# Altium footprint library Other.PcbLib: 9 footprints
Each footprint in its own frame and in the unit in brackets; x right, y up, seen from the top. Pads: shape width x height; smd on the part's side, far side on the other; paste and mask are expansions set on the pad; w line width, h text height; cw(c..) or ccw(c..) is an arc to the next point about the centre after c.
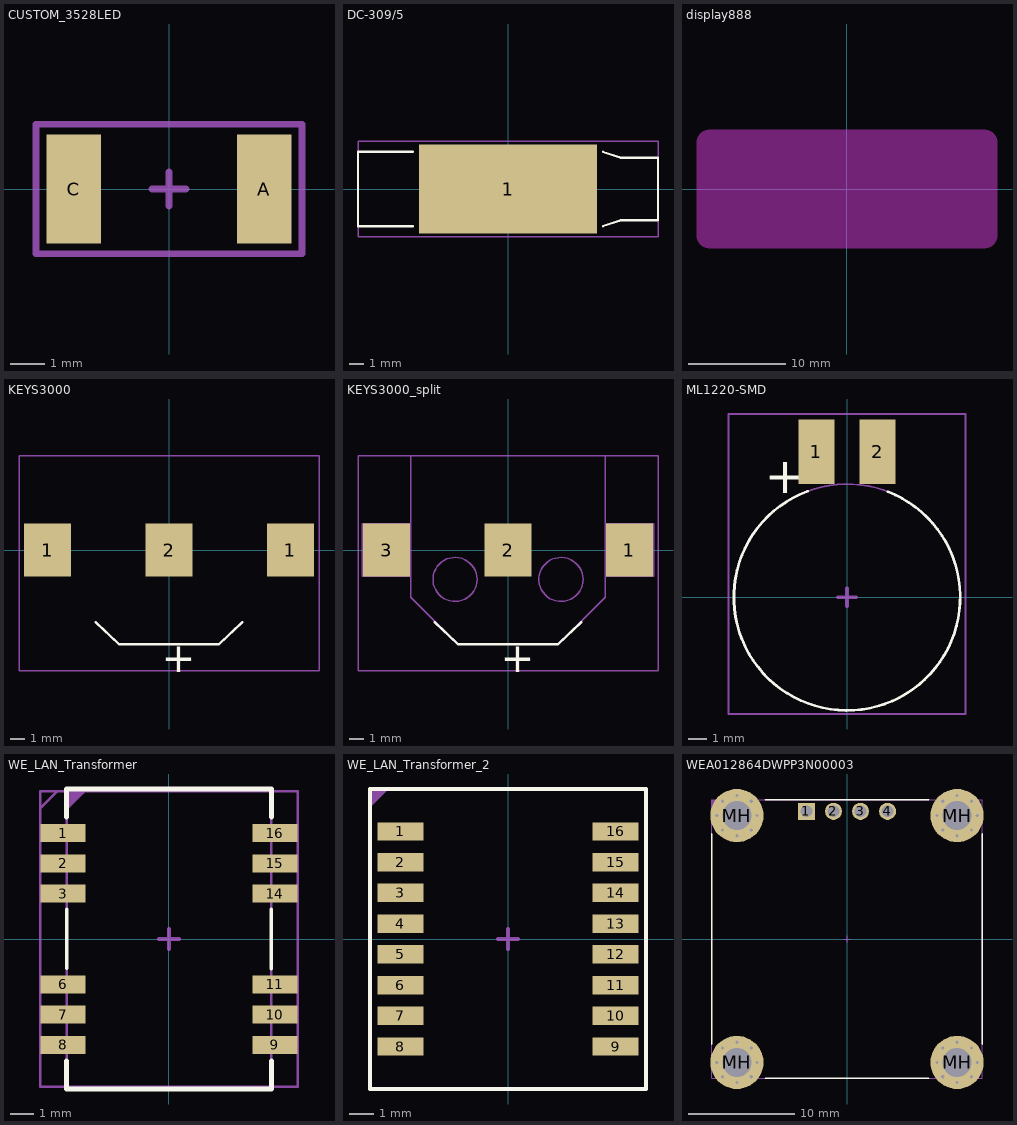
[diagram p0: the footprints below, top view; thin cyan lines are the x and y axes]

## CUSTOM_3528LED [mm]
pads (2):
  rect 1.6x3.2 smd: A(2.8,0) C(-2.8,0)
Top Assembly:
  lines w0.2: -3.9,-1.9 3.9,-1.9 3.9,1.9 -3.9,1.9 -3.9,-1.9
  text ".Designator" at -4.8,-0.4 h1
Top Courtyard:
  lines w0.2: -0.5,0 0.5,0 ; 0,-0.5 0,0.5 ; -3.9,-1.9 3.9,-1.9 3.9,1.9 -3.9,1.9 -3.9,-1.9
  text ".Designator" at -4.8,-0.4 h1
3D body "User Library-Led_3528_SingleColor.step": height 2, standoff 0.1, extent -1.75,-1.4 1.75,1.4

## DC-309/5 [mm]
pads (1):
  rect 12x6 smd: 1(0,0)
Top Overlay:
  lines w0.153: -6.4,-2.5 -10.1,-2.5 -10.1,2.5 -6.4,2.5 ; 6.4,-2.5 7.6,-2.1 10.1,-2.1 10.1,2.1 7.6,2.1 6.4,2.5
Top Assembly:
  lines w0.1: -10.1,-3.2 10.1,-3.2 10.1,3.2 -10.1,3.2 -10.1,-3.2
  text ".Designator" at -4.8,-0.4 h1
Top Courtyard:
  lines w0.1: -10.1,-3.2 10.1,-3.2 10.1,3.2 -10.1,3.2 -10.1,-3.2
  lines w0.2: -0.5,0 0.5,0 ; 0,-0.5 0,0.5
3D body "bar-pin.STEP": height 5.1, standoff 0, extent -10,-2.5 10,2.5

## display888 [mm]
Keep-Out Layer:
  board cut-out: -15.495,4.855 -15.495,4.98 -15.446,5.225 -15.35,5.457 -15.211,5.665 -15.035,5.841 -14.827,5.98 -14.595,6.076 -14.35,6.125 -14.225,6.125 14.235,6.125 14.36,6.125 14.605,6.076 14.837,5.98 15.045,5.841 15.221,5.665 15.36,5.457 15.456,5.225 15.505,4.98 15.505,4.855 15.505,-4.805 15.505,-4.93 15.456,-5.175 15.36,-5.407 15.221,-5.615 15.045,-5.791 14.837,-5.93 14.605,-6.026 14.36,-6.075 14.235,-6.075 -14.225,-6.075 -14.35,-6.075 -14.595,-6.026 -14.827,-5.93 -15.035,-5.791 -15.211,-5.615 -15.35,-5.407 -15.446,-5.175 -15.495,-4.93 -15.495,-4.805
3D body "display888_Standard.STEP": height 6.7, standoff -7.6, extent -15.2,-5.05 15.2,5.05

## KEYS3000 [mm]
pads (3):
  rect 3.2x3.6 smd: 1(-8.25,0) 1(8.25,0) 2(0,0)
Top Overlay:
  lines w0.153: -5,-4.9 -3.4,-6.4 0,-6.4 3.4,-6.4 5,-4.9
  text "+" at -0.5,-8.3 h2
Top Courtyard:
  lines w0.1: -10.2,-8.2 -10.2,6.4 10.2,6.4 10.2,-8.2 -10.2,-8.2
  lines w0.2: -0.5,0 0.5,0 ; 0,-0.5 0,0.5
  text ".Designator" at -4.8,-0.4 h1
3D body "User Library-BK-885-TR.step": height 3.17, standoff 0, extent -9.78,-6.35 9.78,6.35

## KEYS3000_split [mm]
pads (3):
  rect 3.2x3.6 smd: 1(8.25,0) 2(0,0) 3(-8.25,0)
Top Overlay:
  lines w0.153: -5,-4.9 -3.4,-6.4 0,-6.4 3.4,-6.4 5,-4.9
  text "+" at -0.5,-8.3 h2
Top Assembly:
  circle w0.1: c8.25,0 r0.8
  circle w0.1: c-8.25,0 r0.8
  circle w0.1: c-3.6,-2 r1.5
  circle w0.1: c3.6,-2 r1.5
  lines w0.1: -6.6,-1.8 -9.9,-1.8 -9.9,1.8 -6.6,1.8 ; 6.6,-1.8 9.9,-1.8 9.9,1.8 6.6,1.8 ; -6.6,-3.2 -3.4,-6.4 3.4,-6.4 6.6,-3.2 6.6,6.4 -6.6,6.4 -6.6,-3.2
  text ".Designator" at -4.8,-0.4 h1
Top Courtyard:
  lines w0.1: -10.2,-8.2 10.2,-8.2 10.2,6.4 -10.2,6.4 -10.2,-8.2
  lines w0.2: -0.5,0 0.5,0 ; 0,-0.5 0,0.5
3D body "User Library-BK-885-TR.step": height 3.17, standoff 0, extent -9.78,-6.35 9.78,6.35

## ML1220-SMD [mm]
pads (2):
  rect 2x3.6 smd: 1(-1.7,8.1) 2(1.7,8.1)
Top Overlay:
  lines w0.153: -2.201,5.903 ccw(c0,0) 2.288,5.87
  text "+" at -4.566,5.8 h2
Top Assembly:
  circle w0.1: c0,0 r6.3
  text ".Designator" at -4.8,-0.4 h1
Top Courtyard:
  lines w0.1: -6.6,-6.5 6.6,-6.5 6.6,10.2 -6.6,10.2 -6.6,-6.5
  lines w0.2: -0.5,0 0.5,0 ; 0,-0.5 0,0.5
3D body "User Library-FCN.step": height 2.75, standoff 0.05, extent -6.238,-6.25 6.238,9.477

## WE_LAN_Transformer [mm]
pads (12):
  rect 1.9x0.76 smd: 1(-4.45,4.445) 2(-4.45,3.175) 3(-4.45,1.905) 6(-4.45,-1.905) 7(-4.45,-3.175) 8(-4.45,-4.445) 9(4.45,-4.445) 10(4.45,-3.175) 11(4.45,-1.905) 14(4.45,1.905) 15(4.45,3.175) 16(4.45,4.445)
Top Overlay:
  lines w0.15: -4.3,-1.225 -4.3,1.25 ; 4.3,-1.25 4.3,1.25
  lines w0.2: -4.3,-5.125 -4.3,-6.3 4.3,-6.3 4.3,-5.125 ; -4.3,5.125 -4.3,6.3 4.3,6.3 4.3,5.125
  text "." at -5.347,5.153 h0.8
Top Courtyard:
  region: -4.3,6.175 -3.6,6.175 -4.3,5.475
  lines w0.1: -5.4,5.5 -4.7,6.2 ; -4.3,5.45 -3.6,6.15 ; -5.4,-6.2 5.4,-6.2 5.4,6.2 -5.4,6.2 -5.4,-6.2 ; -4.3,-6.2 4.3,-6.2 4.3,6.2 -4.3,6.2 -4.3,-6.2
  lines w0.153: -0.425,0 0.425,0 ; 0,-0.425 0,0.425
  text "'.Designator'" at -0.08,5.047 h0.8
3D body "WE-LAN-749020100A (rev1).stp": height 2.94, standoff 0, extent -4.75,-6.225 4.75,6.225

## WE_LAN_Transformer_2 [mm]
pads (16):
  rect 1.9x0.76 smd: 1(-4.45,4.445) 2(-4.45,3.175) 3(-4.45,1.905) 4(-4.45,0.635) 5(-4.45,-0.635) 6(-4.45,-1.905) 7(-4.45,-3.175) 8(-4.45,-4.445) 9(4.45,-4.445) 10(4.45,-3.175) 11(4.45,-1.905) 12(4.45,-0.635) 13(4.45,0.635) 14(4.45,1.905) 15(4.45,3.175) 16(4.45,4.445)
Top Overlay:
  lines w0.153: -5.7,-6.2 5.7,-6.2 5.7,6.2 -5.7,6.2 -5.7,-6.2
  text "." at -6.347,4.653 h0.8
Top Courtyard:
  region: -5.7,6.2 -5,6.2 -5.7,5.5
  lines w0.1: -5.7,-6.2 5.7,-6.2 ; -5.7,-6.2 -5.7,6.2 ; -5.7,-6.2 -5.7,6.2 ; -5.7,-6.2 5.7,-6.2 ; -5.7,6.2 5.7,6.2 ; -5.7,6.2 5.7,6.2 ; 5.7,-6.2 5.7,6.2 ; 5.7,-6.2 5.7,6.2 ; -5.7,5.5 -5,6.2 -5.7,5.5
  lines w0.153: -0.425,0 0.425,0 ; 0,-0.425 0,0.425
  text "'.Designator'" at -0.08,5.047 h0.8
3D body "WE-LAN-749020100A (rev1).stp": height 2.94, standoff 0, extent -4.75,-6.225 4.75,6.225

## WEA012864DWPP3N00003 [mm]
pads (40):
  rect 1.6x1.6 hole 1.1: 1(-3.81,12)
  round 1.6 hole 1.1: 2(-1.27,12) 3(1.27,12) 4(3.81,12)
  round 0.7 hole 0.3 mask+0.102: MH(-12.25,-11.6) MH(-12.25,11.6) MH(-11.694,-12.944) MH(-11.694,-10.256) MH(-11.694,10.256) MH(-11.694,12.944) MH(-10.35,-13.5) MH(-10.35,-9.7) MH(-10.35,9.7) MH(-10.35,13.5) MH(-9.006,-12.944) MH(-9.006,-10.256) MH(-9.006,10.256) MH(-9.006,12.944) MH(-8.45,-11.6) MH(-8.45,11.6) MH(8.45,-11.6) MH(8.45,11.6) MH(9.006,-12.944) MH(9.006,-10.256) MH(9.006,10.256) MH(9.006,12.944) MH(10.35,-13.5) MH(10.35,-9.7) MH(10.35,9.7) MH(10.35,13.5) MH(11.694,-12.944) MH(11.694,-10.256) MH(11.694,10.256) MH(11.694,12.944) MH(12.25,-11.6) MH(12.25,11.6)
  round 5 hole 2.7: MH(-10.35,-11.6) MH(-10.35,11.6) MH(10.35,-11.6) MH(10.35,11.6)
Top Overlay:
  lines w0.153: -12.7,-9.9 -12.7,9.9 ; -7.7,-13.1 7.7,-13.1 ; -7.7,13.1 7.7,13.1 ; 12.7,-9.9 12.7,9.9
Top Assembly:
  region: -12.7,13.081 -11.9,13.081 -12.7,12.281
  lines w0.1: -0.3,0 0.3,0 ; 0,-0.3 0,0.3 ; -12.7,-13.1 -12.7,13.1 12.7,13.1 12.7,-13.1 -12.7,-13.1
Top Courtyard:
  region: -12.7,13.081 -11.9,13.081 -12.7,12.281
  lines w0.1: -12.7,-13.1 -12.7,13.1 12.7,13.1 12.7,-13.1 -12.7,-13.1
  text "'.Designator'" at -4.532,-0.333 h0.8
3D body "User Library-zl262-4s_p2-54_l10-66_w2-54_h8-5.step": height 8.5, standoff -3, extent -5.33,10.73 5.33,13.27
3D body "SSD1306_OLED_Display(128x64).step": height 14.4, standoff 2.6, extent -12.7,-13.1 12.7,13.1